# EAGLE library part MTK3339 (library mtk3339)
GlobalTop FGPMMOPA6C GPS Module
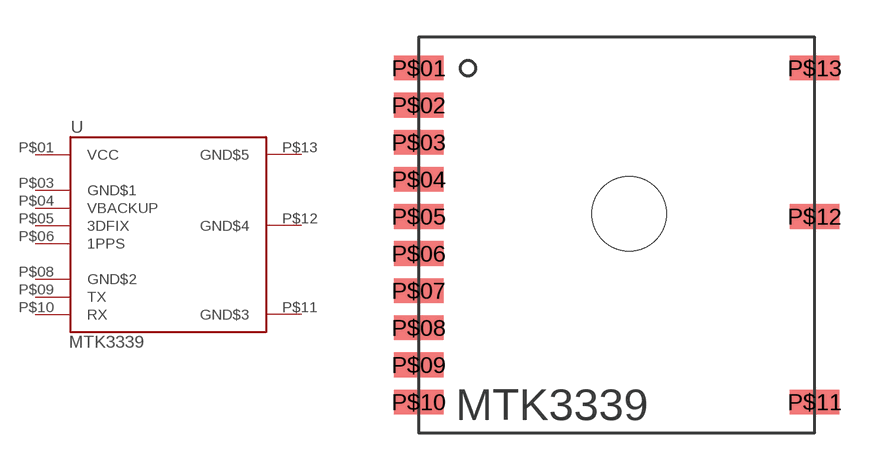
[diagram p0: symbol with the pads of MTK3339; footprint MTK3339]

Designator prefix -

## MTK3339  [MTK3339]
P$01  VCC  pwr
P$02  NC$1  nc
P$03  GND$1  pwr
P$04  VBACKUP  pwr
P$05  3DFIX  out
P$06  1PPS  out
P$07  NC$2  nc
P$08  GND$2  pwr
P$09  TX  out
P$10  RX  in
P$11  GND$3  pwr
P$12  GND$4  pwr
P$13  GND$5  pwr

## Footprint MTK3339 (pad centres in mm)
FGPMMOPA6C GPS Standalone Module
smd 2 x 1: P$01 -8,6.75; P$02 -8,5.25; P$03 -8,3.75; P$04 -8,2.25; P$05 -8,0.75; P$06 -8,-0.75; P$07 -8,-2.25; P$08 -8,-3.75; P$09 -8,-5.25; P$10 -8,-6.75; P$11 8,-6.75; P$12 8,0.75; P$13 8,6.75
hole 3 at 0.5,0.85